# Altium schematic symbol library Shelestov_PCIE.SchLib: 3 symbols
Pins are listed as number, name and electrical type; pins without a type are passive.

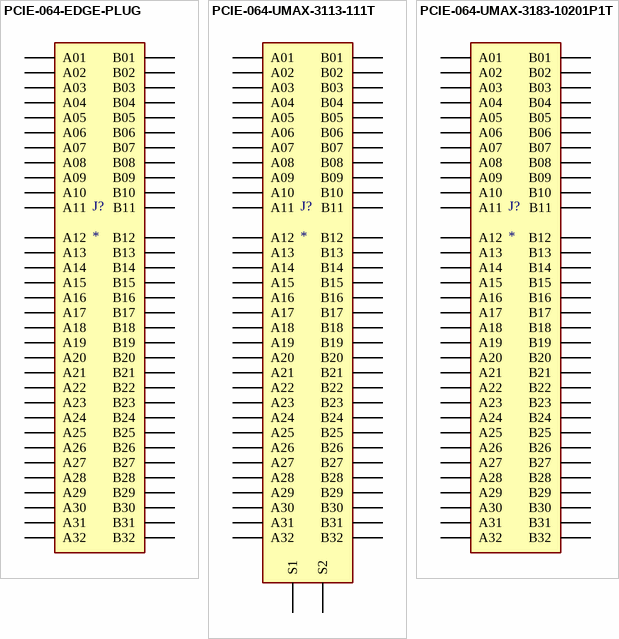
[diagram p0: symbols PCIE-064-EDGE-PLUG to PCIE-064-UMAX-3183-10201P1T]

## PCIE-064-EDGE-PLUG
designator J?
1.00 mm PCI Express Edge Card Connector; Package: None
footprint PCIE-064-02-X-D-EMS2
pins: A01, A02, A03, A04, A05, A06, A07, A08, A09, A10, A11, A12, A13, A14, A15, A16, A17, A18, A19, A20, A21, A22, A23, A24, A25, A26, A27, A28, A29, A30, A31, A32, B01, B02, B03, B04, B05, B06, B07, B08, B09, B10, B11, B12, B13, B14, B15, B16, B17, B18, B19, B20, B21, B22, B23, B24, B25, B26, B27, B28, B29, B30, B31, B32

## PCIE-064-UMAX-3113-111T
designator J?
1.00 mm PCI Express Edge Card Connector; MP: 3113-111T; MF: UMAX; Price: *; Availability: *; Value: *; Package: None; ComponentLink1Description: LCSC; ComponentLink1URL: https://lcsc.com/product-detail/Card-Edge-Connectors_UMAX-3113-111T_C404102.html
footprint PCIE-064-SOCKET-SMD_UMAX 3113-111T
pins: A01, A02, A03, A04, A05, A06, A07, A08, A09, A10, A11, A12, A13, A14, A15, A16, A17, A18, A19, A20, A21, A22, A23, A24, A25, A26, A27, A28, A29, A30, A31, A32, B01, B02, B03, B04, B05, B06, B07, B08, B09, B10, B11, B12, B13, B14, B15, B16, B17, B18, B19, B20, B21, B22, B23, B24, B25, B26, B27, B28, B29, B30, B31, B32, S1, S2

## PCIE-064-UMAX-3183-10201P1T
designator J?
1.00 mm PCI Express Edge Card Connector; MP: 3183-10201P1T; MF: UMAX; Price: *; Availability: *; Value: *; Package: None; ComponentLink1Description: LCSC; ComponentLink1URL: https://lcsc.com/product-detail/Card-Edge-Connectors_UMAX-3183-10201P1T_C404114.html
footprint PCIE-064-SOCKET-TH_UMAX 3183-10201P1T
pins: A01, A02, A03, A04, A05, A06, A07, A08, A09, A10, A11, A12, A13, A14, A15, A16, A17, A18, A19, A20, A21, A22, A23, A24, A25, A26, A27, A28, A29, A30, A31, A32, B01, B02, B03, B04, B05, B06, B07, B08, B09, B10, B11, B12, B13, B14, B15, B16, B17, B18, B19, B20, B21, B22, B23, B24, B25, B26, B27, B28, B29, B30, B31, B32